# EAGLE library part CD54HC4511 (library ECE532_Parts)
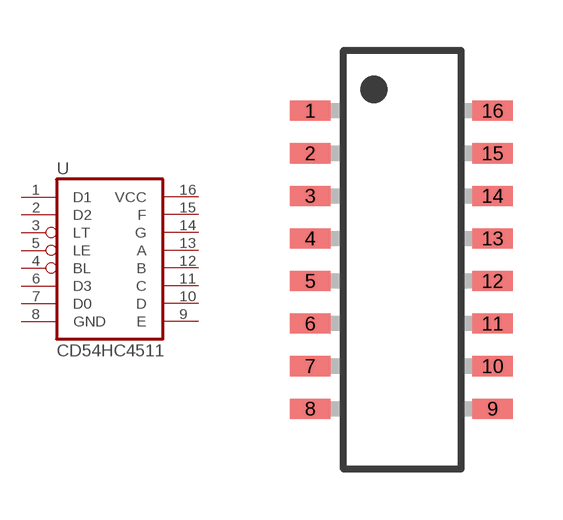
[diagram p1: symbol with the pads of CD54HC4511; footprint CD54HC4511]

Designator prefix -

## CD54HC4511  [CD54HC4511]
1  D1
2  D2  in
3  LT  in
4  BL  in
5  LE  in
6  D3  in
7  D0  in
8  GND  in
9  E  out
10  D  out
11  C  out
12  B  out
13  A
14  G  out
15  F  out
16  VCC  out

## Footprint CD54HC4511 (pad centres in mm)
smd 1.2 x 0.6: 1 -4.445,3.175; 2 -4.445,1.905; 3 -4.445,0.635; 4 -4.445,-0.635; 5 -4.445,-1.905; 6 -4.445,-3.175; 7 -4.445,-4.445; 8 -4.445,-5.715; 9 0.995,-5.715; 10 0.995,-4.445; 11 0.995,-3.175; 12 0.995,-1.905; 13 0.995,-0.635; 14 0.995,0.635; 15 0.995,1.905; 16 0.995,3.175